# EAGLE library part AP3602 (library Regulator)
The AP3602A/B are regulated step-up DC/DC converters based on charge pump technique. These ICs have the ability to supply 100mA constant output current or 250mA peak output current for 100ms from 3.0V to 5V input (2.7V to 4.5 V for AP3602B), so they can be used as white LEDs driver or flash LED driver. The AP3602A/B have very low power dissipation and high efficiency in typical applications. Other features include over-temperature protection, low temperature coefficient and etc. to meet some special requirements of hand-held battery powered devices. Only 3 external capacitors are required in applications, which helps to save space and lower cost. These chips also have a disable terminal to turn on or turn off the chip to ease the use. The AP3602A/B are available in SOT-23-6 package.
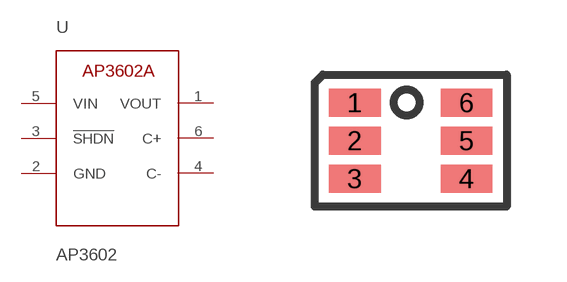
[diagram p10: symbol with the pads of SOT-23-6; footprint SOT-23-6]

Designator prefix U

## AP3602A  [SOT-23-6]
1  VOUT  pwr
2  GND  pwr
3  !SHDN!
4  C-
5  VIN  pwr
6  C+

## Footprint SOT-23-6 (pad centres in mm)
smd 1.3 x 0.7: 1 0.1,0; 2 0.1,-0.95; 3 0.1,-1.9; 4 2.9,-1.9; 5 2.9,-0.95; 6 2.9,0